# Altium footprint library ControlCircuit_PCB_Library_V1_0.PcbLib: 207 footprints (part 5 of 13)
Each footprint in its own frame and in the unit in brackets; x right, y up, seen from the top. Pads: shape width x height; smd on the part's side, far side on the other; paste and mask are expansions set on the pad; w line width, h text height; cw(c..) or ccw(c..) is an arc to the next point about the centre after c.
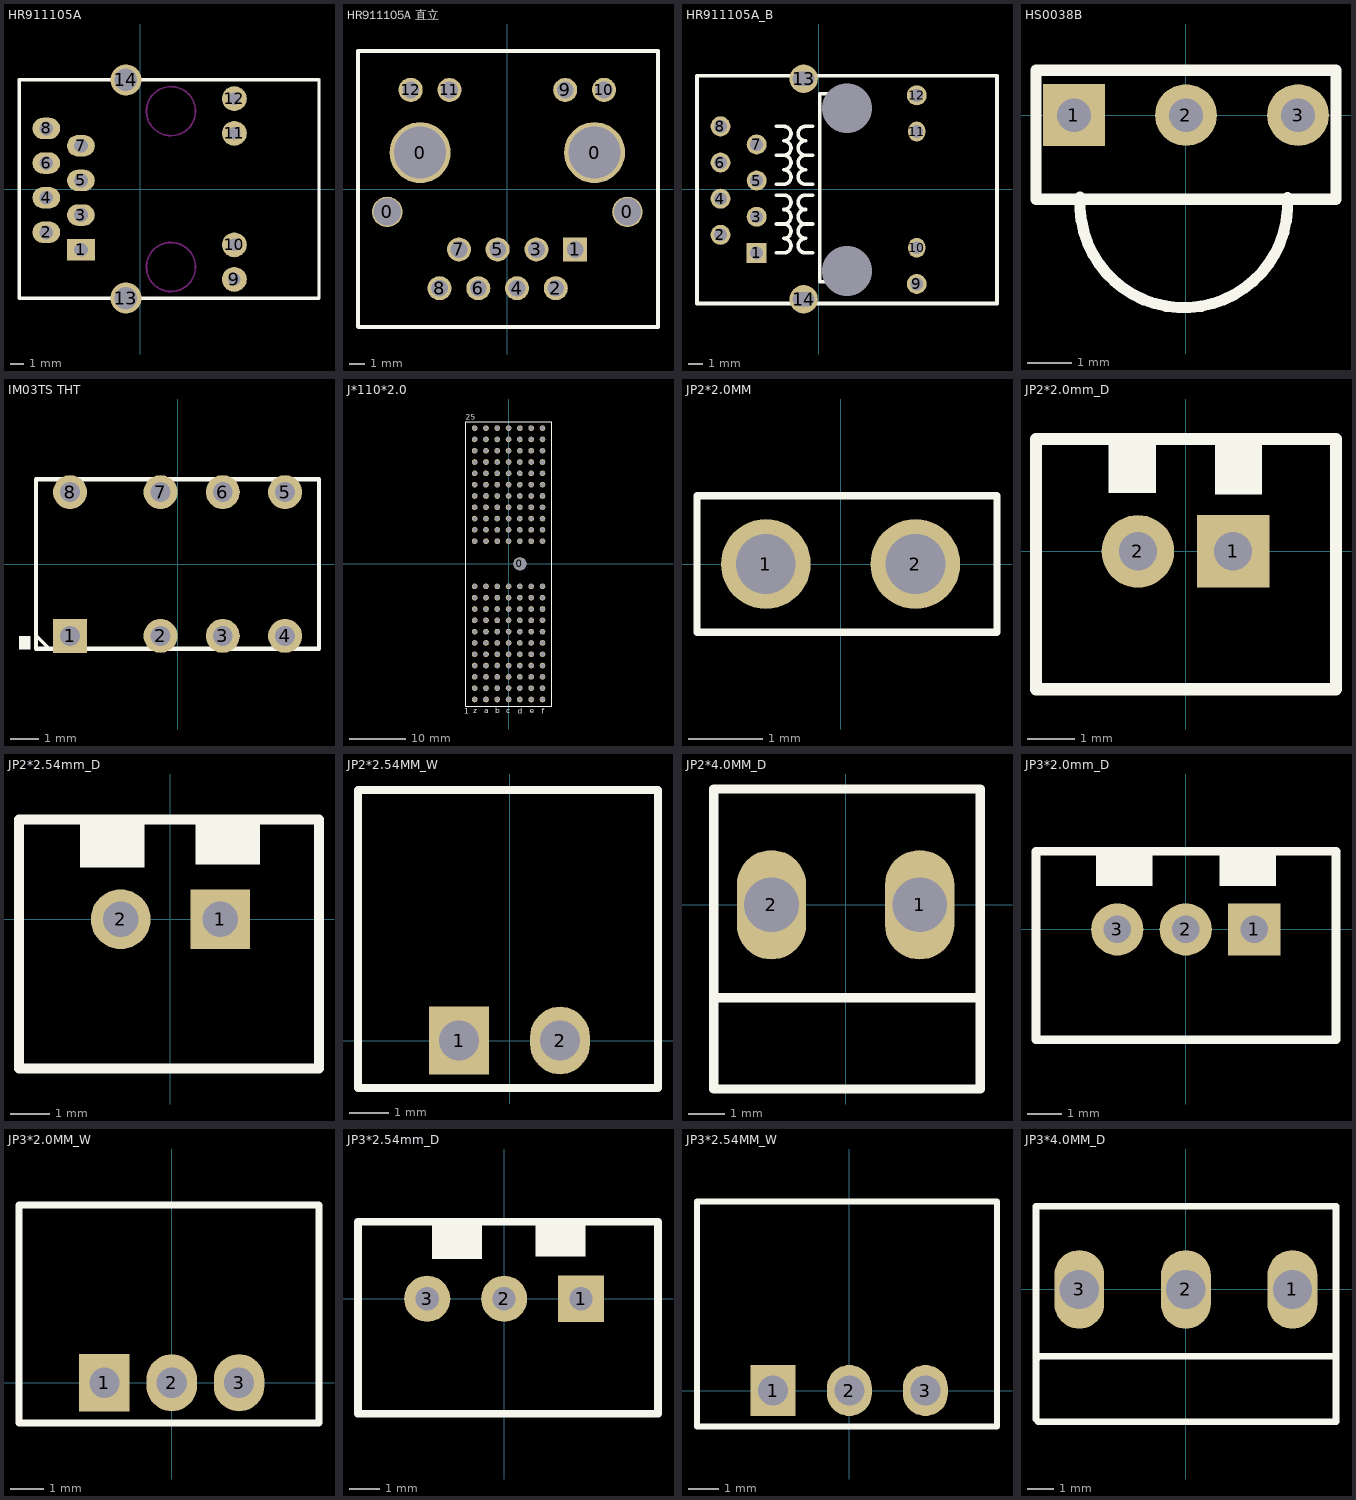
[diagram p4: the footprints below, top view; thin cyan lines are the x and y axes]

## HR911105A [mil]
pads (14):
  rect 80x62 hole 40: 1(-171.46,-175.2)
  oval 80x62 hole 40: 2(-271.46,-125.2) 3(-171.46,-75.2) 4(-271.46,-25.2) 5(-171.46,24.8) 6(-271.46,74.8) 7(-171.46,124.8) 8(-271.46,174.8)
  round 72 hole 36: 9(271.46,-260.83) 10(271.46,-161.2) 11(271.46,160.67) 12(271.46,260.8)
  round 90 hole 65: 13(-41.54,-314.96) 14(-41.54,314.96)
Top Overlay:
  lines w10: -350.2,-315.2 -349.96,-314.96 ; -350.2,314.8 -350.04,314.96 ; -350.04,314.96 -41.54,314.96 515.79,314.96 515.95,314.8 515.95,-315.2 515.71,-314.96 -41.54,-314.96 -349.96,-314.96 ; -350.04,314.96 -350.04,-314.88 -349.96,-314.96
Keep-Out Layer:
  circle w5: c88.54,-225.2 r70.8
  circle w5: c88.54,224.8 r70.8

## HR911105A 直立 [mm]
pads (16):
  round 2 hole 1.8: 0(-7.875,-1.5) 0(7.875,-1.5)
  round 4 hole 3.4: 0(-5.715,2.39) 0(5.715,2.39)
  rect 1.575x1.575 hole 1.1: 1(4.445,-3.96)
  round 1.575 hole 1.1: 2(3.175,-6.5) 3(1.905,-3.96) 4(0.635,-6.5) 5(-0.635,-3.96) 6(-1.905,-6.5) 7(-3.175,-3.96) 8(-4.445,-6.5) 9(3.795,6.5) 11(-3.795,6.5)
  round 1.58 hole 1.1: 10(6.335,6.5) 12(-6.335,6.5)
Top Overlay:
  lines w0.254: -9.788,9.04 9.875,9.04 ; -9.788,9.045 -9.788,-9.006 -9.754,-9.04 9.875,-9.04 9.875,9.045

## HR911105A_B [mm]
pads (16):
  rect 1.4x1.4 hole 0.9: 1(-4.355,-4.49)
  round 1.4 hole 0.9: 2(-6.895,-3.22) 3(-4.355,-1.95) 4(-6.895,-0.68) 5(-4.355,0.59) 6(-6.895,1.86) 7(-4.355,3.13) 8(-6.895,4.4) 9(6.895,-6.67) 12(6.895,6.58)
  oval 1.2x1.4 hole 0.9: 10(6.895,-4.13) 11(6.895,4.04)
  round 2 hole 1 slot 1.5 at 0 deg: 13(-1.055,7.74) 14(-1.055,-7.74)
  round 0 hole 3.5 unplated: 16(1.995,-5.76) 16(1.995,5.67)
Top Overlay:
  lines w0.254: -2.958,-4.49 -2.45,-4.49 ccw(c-2.45,-3.982) -2.45,-3.474 ccw(c-2.45,-2.966) -2.45,-2.458 ; -2.958,-2.458 -2.45,-2.458 ; -2.958,-0.426 -2.45,-0.426 cw(c-2.45,-0.934) -2.45,-1.442 cw(c-2.45,-1.95) -2.45,-2.458 ; -2.958,0.336 -2.45,0.336 ccw(c-2.45,0.844) -2.45,1.352 ccw(c-2.45,1.86) -2.45,2.368 ; -2.958,2.368 -2.45,2.368 ; -2.958,4.4 -2.45,4.4 cw(c-2.45,3.892) -2.45,3.384 cw(c-2.45,2.876) -2.45,2.368 ; -0.418,-4.49 -0.926,-4.49 cw(c-0.926,-3.982) -0.926,-3.474 cw(c-0.926,-2.966) -0.926,-2.458 ; -0.418,-2.458 -0.926,-2.458 ; -0.418,-0.426 -0.926,-0.426 ccw(c-0.926,-0.934) -0.926,-1.442 ccw(c-0.926,-1.95) -0.926,-2.458 ; -0.418,0.336 -0.926,0.336 cw(c-0.926,0.844) -0.926,1.352 cw(c-0.926,1.86) -0.926,2.368 ; -0.418,2.368 -0.926,2.368 ; -0.418,4.4 -0.926,4.4 ccw(c-0.926,3.892) -0.926,3.384 ccw(c-0.926,2.876) -0.926,2.368 ; 0.598,-6.522 0.09,-6.522 0.09,6.686 0.598,6.686 ; -8.546,-8.046 -8.546,7.956 12.534,7.956 12.534,-8.046 -8.546,-8.046

## HS0038B [mm]
pads (3):
  rect 1.4x1.4 hole 0.762: 1(-2.54,0)
  round 1.4 hole 0.762: 2(0,0) 3(2.54,0)
Top Overlay:
  lines w0.254: -2.4,-1.863 ccw(c-0.05,-2.011) 2.3,-1.867 ; -3.4,-1.905 3.4,-1.905 3.4,1.016 -3.4,1.016 -3.4,-1.905

## IM03TS THT [mm]
height 1.1
pads (8):
  rect 1.2x1.2 hole 0.7: 1(-3.8,-2.54)
  round 1.2 hole 0.7: 2(-0.6,-2.54) 3(1.6,-2.54) 4(3.8,-2.54) 5(3.8,2.54) 6(1.6,2.54) 7(-0.6,2.54) 8(-3.8,2.54)
Top Overlay:
  rectangle: -5.603,-3.023 -5.197,-2.54
  lines w0.127: -4.997,-2.54 -4.537,-3
  lines w0.152: -5,-2.997 -5,2.997 5,2.997 5,-3 -4.997,-3 -5,-2.997

## J*110*2.0 [mm]
pads (155):
  round 1 hole 0.8: 0(-6,-24) 0(-6,-22) 0(-6,-20) 0(-6,-18) 0(-6,-16) 0(-6,-14) 0(-6,-12) 0(-6,-10) 0(-6,-8) 0(-6,-6) 0(-6,-4) 0(-6,4) 0(-6,6) 0(-6,8) 0(-6,10) 0(-6,12) 0(-6,14) 0(-6,16) 0(-6,18) 0(-6,20) 0(-6,22) 0(-6,24) 1(-4,-24) 2(-4,-22) 3(-4,-20) 4(-4,-18) 5(-4,-16) 6(-4,-14) 7(-4,-12) 8(-4,-10) 9(-4,-8) 10(-4,-6) 11(-4,-4) 12(-4,4) 13(-4,6) 14(-4,8) 15(-4,10) 16(-4,12) 17(-4,14) 18(-4,16) 19(-4,18) 20(-4,20) 21(-4,22) 22(-4,24) 23(-2,-24) 24(-2,-22) 25(-2,-20) 26(-2,-18) 27(-2,-16) 28(-2,-14) 29(-2,-12) 30(-2,-10) 31(-2,-8) 32(-2,-6) 33(-2,-4) 34(-2,4) 35(-2,6) 36(-2,8) 37(-2,10) 38(-2,12) 39(-2,14) 40(-2,16) 41(-2,18) 42(-2,20) 43(-2,22) 44(-2,24) 45(0,-24) 46(0,-22) 47(0,-20) 48(0,-18) 49(0,-16) 50(0,-14) 51(0,-12) 52(0,-10) 53(0,-8) 54(0,-6) 55(0,-4) 56(0,4) 57(0,6) 58(0,8) 59(0,10) 60(0,12) 61(0,14) 62(0,16) 63(0,18) 64(0,20) 65(0,22) 66(0,24) 67(2,-24) 68(2,-22) 69(2,-20) 70(2,-18) 71(2,-16) 72(2,-14) 73(2,-12) 74(2,-10) 75(2,-8) 76(2,-6) 77(2,-4) 78(2,4) 79(2,6) 80(2,8) 81(2,10) 82(2,12) 83(2,14) 84(2,16) 85(2,18) 86(2,20) 87(2,22) 88(2,23.982) 89(4,-24) 90(4,-22) 91(4,-20) 92(4,-18) 93(4,-16) 94(4,-14) 95(4,-12) 96(4,-10) 97(4,-8) 98(4,-6) 99(4,-4) 100(4,4) 101(4,6) 102(4,8) 103(4,10) 104(4,12) 105(4,14) 106(4,16) 107(4,18) 108(4,20) 109(4,22) 110(4,24) 111(6,-24) 112(6,-22) 113(6,-20) 114(6,-18) 115(6,-16) 116(6,-14) 117(6,-12) 118(6,-10) 119(6,-8) 120(6,-6) 121(6,-4) 122(6,4) 123(6,6) 124(6,8) 125(6,10) 126(6,12) 127(6,14) 128(6,16) 129(6,18) 130(6,20) 131(6,22) 132(6,24)
  round 2.3 hole 2.3: 0(2,0)
Top Overlay:
  lines w0.1: -4.025,-25.225 7.633,-25.225 ; -3.975,-25.225 -7.607,-25.225 -7.607,25.118 7.659,25.118 7.659,-24.057 ; 7.659,-25.225 7.659,-23.32
  text "e" at 3.722,-26.47 h1
  text "1" at -7.861,-26.521 h1
  text "25" at -7.607,25.499 h1
  text "z" at -6.286,-26.419 h1
  text "f" at 5.881,-26.571 h1
  text "a" at -4.33,-26.47 h1
  text "b" at -2.324,-26.47 h1
  text "c" at -0.393,-26.444 h1
  text "d" at 1.639,-26.521 h1

## JP2*2.0MM [mm]
pads (2):
  round 1.2 hole 0.8: 1(-1,0) 2(1,0)
Top Overlay:
  circle w0.1: c0.995,-0.018 r0.3
  circle w0.1: c0.995,-0.018 r0.3
  lines w0.1: -1.921,-0.914 2.092,-0.914 2.092,0.914 -1.921,0.914 -1.921,-0.914

## JP2*2.0mm_D [mm]
pads (2):
  rect 1.524x1.524 hole 0.8: 1(1,0)
  round 1.524 hole 0.8: 2(-1,0)
Top Overlay:
  region: -1.616,2.362 -1.616,1.219 -0.626,1.219 -0.626,2.362
  region: 0.619,2.337 0.619,1.194 1.61,1.194 1.61,2.337
  lines w0.254: -3.14,-2.896 3.159,-2.896 3.159,2.362 -3.14,2.362 -3.14,-2.896

## JP2*2.54mm_D [mil]
pads (2):
  rect 60x60 hole 35.43: 1(50,0)
  round 60 hole 35.43: 2(-50,0)
Top Overlay:
  region: 25,100 25,55 90,55 90,100
  region: -91,97 -91,52 -26,52 -26,97
  lines w10: -152,-149.61 149,-149.61 149,100 -152,100 -152,-149.61

## JP2*2.54MM_W [mm]
pads (2):
  rect 1.5x1.7 hole 1: 1(-1.27,0)
  oval 1.5x1.7 hole 1: 2(1.27,0)
Top Overlay:
  lines w0.2: -3.81,6.299 -3.81,1.822 -3.81,-1.194 -2.057,-1.194 3.734,-1.194 3.734,6.299 -3.759,6.299

## JP2*4.0MM_D [mm]
pads (2):
  oval 1.9x3 hole 1.5: 1(2.032,0) 2(-2.032,0)
Top Overlay:
  lines w0.254: -3.617,-2.55 3.694,-2.55 ; -3.617,-5.05 3.694,-5.05 3.694,3.175 -3.617,3.175 -3.617,-5.05

## JP3*2.0mm_D [mil]
pads (3):
  rect 60x60 hole 31.5: 1(78.74,0)
  round 60 hole 31.5: 2(0,0) 3(-78.74,0)
Top Overlay:
  region: -103.26,95 -103.26,50 -38.26,50 -38.26,95
  region: 38.74,95 38.74,50 103.74,50 103.74,95
  lines w10: -172.26,-127 -172.26,90 172.74,90 172.74,-127 -172.26,-127

## JP3*2.0MM_W [mm]
pads (3):
  rect 1.5x1.7 hole 0.9: 1(-2,0)
  oval 1.5x1.7 hole 0.9: 2(0,0) 3(2,0)
Top Overlay:
  lines w0.2: -4.54,-1.194 -4.54,1.822 -4.54,5.283 4.375,5.283 4.375,-1.194 -2.787,-1.194 -4.54,-1.194

## JP3*2.54mm_D [mil]
pads (3):
  rect 60x60 hole 30: 1(100,0)
  round 60 hole 30: 2(0,0) 3(-100,0)
Top Overlay:
  region: 41,100 41,55 106,55 106,100
  region: -94,97 -94,52 -29,52 -29,97
  lines w10: -190,-149.61 150,-149.61 200,-149.61 200,98.43 200,100 -190,100 -190,-149.61

## JP3*2.54MM_W [mm]
pads (3):
  rect 1.5x1.7 hole 1: 1(-2.54,0)
  oval 1.5x1.7 hole 1: 2(0,0) 3(2.54,0)
Top Overlay:
  lines w0.2: -5.08,6.299 -5.08,1.822 -5.08,-1.194 -3.327,-1.194 4.928,-1.194 4.928,6.299 -5.029,6.299

## JP3*4.0MM_D [mm]
pads (3):
  oval 1.9x3 hole 1.5: 1(4.064,0) 2(0,0) 3(-4.064,0)
Top Overlay:
  lines w0.254: -5.715,-2.667 -5.598,-2.55 -0.127,-2.55 ; -5.715,3.175 -5.715,-4.953 -5.618,-5.05 -1.27,-5.05 ; -5.69,3.175 -1.585,3.175 5.726,3.175 5.726,-5.05 -1.585,-5.05 ; -1.585,-2.55 5.726,-2.55